# Altium schematic symbol library LT-CHARGE+.SchLib: 18 symbols
Pins are listed as number, name and electrical type; pins without a type are passive.

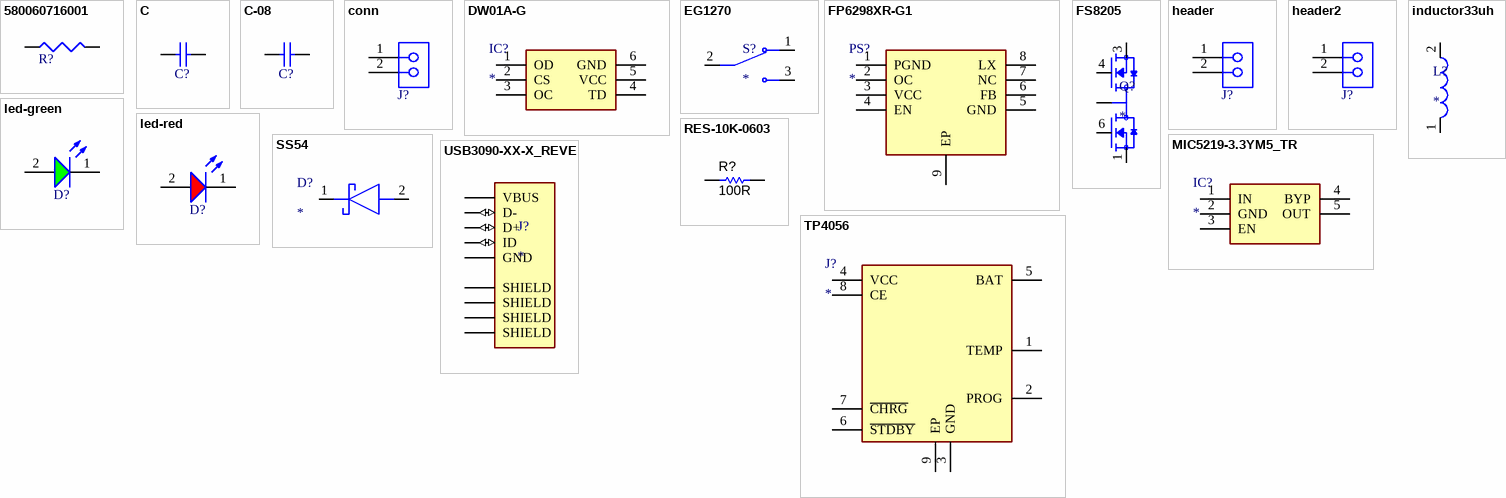
[diagram p0: symbols 580060716001 to USB3090-XX-X_REVE]

## 580060716001
designator R?, comment 5mΩ  (value not drawn)
WRIS-PSMB Metal Plate Resistor, SMT, size 0603, 0.33W, 5mΩ, +/-1%; Manufacturer Part Number: 580060716001; Manufacturer: Wurth Elektronik; Case/Size Code: 0603; Rated Current: 8.12A; Technical Reference: MB0603R005F103KAATP0000; Temperature Coefficient of Resistance: +/-100ppm/°C; Category: Metal Plate Resistors; Match Code: WRIS-PSMB; ComponentLink1Description: Website Link; ComponentLink1URL: https://www.we-online.com/redexpert/article/580060716001?ad; ComponentLink2Description: Datasheet Link; ComponentLink2URL: https://www.we-online.com/redexpert/spec/580060716001?ad; Mount: Surface Mount; Operating Temperature Max: 155°C; Operating Temperature Min: -55°C; Packaging: Tape and Reel; Length: 1.6mm; Width: 0.8mm; Height: 0.35mm; Rated Power: 0.33W; Resistance: 5mΩ; Resistance Tolerance: +/-1%
footprint WRIS-PSMB_0603_L1.6W0.8H0.3 (Metal Plate Resistor, SMT, body size 1.6x0.8mm)
pins: 1, 2

## C
designator C?, comment 100pF  (value not drawn)
WCAP-CSGP Multilayer Ceramic Chip Capacitor, General Purpose, size 0201, NP0 Class I, 100pF, 25VDC; Manufacturer Part Number: 885012004001; Manufacturer: Wurth Elektronik; Case/Size Code: 0201; Capacitance Tolerance: +/-5%; Insulation Resistance: 10GΩ; Q Factor: 1000; Rated Voltage (DC): 25V; Technical Reference: NP00201101J025DFCT10000; Category: Multilayer Ceramic Chip Capacitors; Match Code: WCAP-CSGP; ComponentLink1Description: Website Link; ComponentLink1URL: https://www.we-online.com/redexpert/article/885012004001?ad; ComponentLink2Description: Datasheet Link; ComponentLink2URL: https://www.we-online.com/redexpert/spec/885012004001?ad; Mount: Surface Mount; Operating Temperature Max: 125°C; Operating Temperature Min: -55°C; Packaging: Tape and Reel; Length: 0.6mm; Width: 0.3mm; Height: 0.3mm; Capacitance: 100pF; Ceramic Type: NP0 Class I
footprint WCAP-CSGP_0603_L1.6W0.8H0.8_Wave (Ceramic Capacitors, 0603, body 1.6x0.8mm)
pins: 1, 2

## C-08
designator C?, comment 10pF  (value not drawn)
WCAP-CSGP Multilayer Ceramic Chip Capacitor, General Purpose, size 0201, NP0 Class I, 10pF, 50VDC; Manufacturer Part Number: 885012004011; Manufacturer: Wurth Elektronik; Case/Size Code: 0201; Capacitance Tolerance: +/-5%; Insulation Resistance: 10GΩ; Q Factor: 600; Rated Voltage (DC): 50V; Technical Reference: NP00201100J050DFCT10000; Category: Multilayer Ceramic Chip Capacitors; Match Code: WCAP-CSGP; ComponentLink1Description: Website Link; ComponentLink1URL: https://www.we-online.com/redexpert/article/885012004011?ad; ComponentLink2Description: Datasheet Link; ComponentLink2URL: https://www.we-online.com/redexpert/spec/885012004011?ad; Mount: Surface Mount; Operating Temperature Max: 125°C; Operating Temperature Min: -55°C; Packaging: Tape and Reel; Length: 0.6mm; Width: 0.3mm; Height: 0.3mm; Capacitance: 10pF; Ceramic Type: NP0 Class I
footprint WCAP-CSGP_0805_L2W1.25H0.6_Wave (Ceramic Capacitors, body 2x1.25mm)
pins: 1, 2

## conn
designator J?, comment 691412220002M  (value not drawn)
WR-TBL Series 4122M 45° Entry, THT, pitch 7mm, 2p; Manufacturer: Wurth Elektronik; Modularity: No; Rated Current: 4A; Working Voltage: 300V; ComponentLink1Description: Website Link; ComponentLink1URL: https://www.we-online.com/redexpert/article/691412220002M?ad; ComponentLink2Description: Datasheet Link; ComponentLink2URL: https://www.we-online.com/redexpert/spec/691412220002M?ad; Manufacturer Part Number: 691412220002M; Category: Terminal Blocks; Match Code: WR-TBL; Mount: Through Hole; Operating Temperature Max: 120°C; Operating Temperature Min: -30°C; Packaging: Box; Application: Screwless; Number of Pins: 2; Number of Rows: 1; Orientation: 45°; Pitch: 7mm
footprint 691210910002 (2,54mm - modular - green - Horizontal wire entry - Cage clamp - 0,8mm2 wires - 02p)
pins: 1, 2

## DW01A-G
designator IC?
Integrated Circuit; Manufacturer_Name: Fortune Semiconductor Corporation; Manufacturer_Part_Number: DW01A-G; Datasheet Link: http://acoptex.com/uploads/DW01A.pdf; Height: 1.35mm
footprint SOT95P280X135-6N
pins: 1 OD, 2 CS, 3 OC, 4 TD, 5 VCC, 6 GND

## EG1270
designator S?
Slide Switch SPDT Through Hole, Right Angle; MF: E-Switch; MP: EG1270; Availability: In Stock; Check_prices: https://www.snapeda.com/parts/EG1270/E-Switch/view-part/?ref=eda; SnapEDA_Link: https://www.snapeda.com/parts/EG1270/E-Switch/view-part/?ref=snap; Purchase-URL: https://pricing.snapeda.com/search/part/EG1270/?ref=eda; Package: None; Value: *; Price: None
footprint SW_EG1270
pins: 1, 2, 3

## FP6298XR-G1
designator PS?
Power Supply; Manufacturer_Name: Feeling Technology; Manufacturer_Part_Number: FP6298XR-G1; Datasheet Link: https://datasheet.lcsc.com/szlcsc/1811141821_Feeling-Tech-FP6298XR-G1_C88319.pdf; Height: 1.752mm
footprint SOIC127P600X175-9N
pins: 1 PGND, 2 OC, 3 VCC, 4 EN, 5 GND, 6 FB, 7 NC, 8 LX, 9 EP

## FS8205
designator Q?
Dual N-Channel Enhancement Mode Power MOSFET; MP: FS8205; MF: Fortune Semiconductor; SnapEDA_Link: https://www.snapeda.com/parts/FS8205/Fortune+Semiconductor/view-part/?ref=snap; Package: Package; Check_prices: https://www.snapeda.com/parts/FS8205/Fortune+Semiconductor/view-part/?ref=eda; Price: None; Value: *; Availability: Not in stock
footprint FS8205
pins: 1 S1, 2 D12, 3 S2, 4 G2, 5 D12, 6 G1

## header
designator J?, comment 691412220002M  (value not drawn)
WR-TBL Series 4122M 45° Entry, THT, pitch 7mm, 2p; Manufacturer: Wurth Elektronik; Modularity: No; Rated Current: 4A; Working Voltage: 300V; ComponentLink1Description: Website Link; ComponentLink1URL: https://www.we-online.com/redexpert/article/691412220002M?ad; ComponentLink2Description: Datasheet Link; ComponentLink2URL: https://www.we-online.com/redexpert/spec/691412220002M?ad; Manufacturer Part Number: 691412220002M; Category: Terminal Blocks; Match Code: WR-TBL; Mount: Through Hole; Operating Temperature Max: 120°C; Operating Temperature Min: -30°C; Packaging: Box; Application: Screwless; Number of Pins: 2; Number of Rows: 1; Orientation: 45°; Pitch: 7mm
footprint MOLEX_530480210
pins: 1, 2

## header2
designator J?, comment 691412220002M  (value not drawn)
WR-TBL Series 4122M 45° Entry, THT, pitch 7mm, 2p; Manufacturer: Wurth Elektronik; Modularity: No; Rated Current: 4A; Working Voltage: 300V; ComponentLink1Description: Website Link; ComponentLink1URL: https://www.we-online.com/redexpert/article/691412220002M?ad; ComponentLink2Description: Datasheet Link; ComponentLink2URL: https://www.we-online.com/redexpert/spec/691412220002M?ad; Manufacturer Part Number: 691412220002M; Category: Terminal Blocks; Match Code: WR-TBL; Mount: Through Hole; Operating Temperature Max: 120°C; Operating Temperature Min: -30°C; Packaging: Box; Application: Screwless; Number of Pins: 2; Number of Rows: 1; Orientation: 45°; Pitch: 7mm
footprint 61300211121 (Pin Header, pitch 2.54 mm, THT, Vertical, single row, 2p)
pins: 1, 2

## inductor33uh
designator L?
33 ÂµH Shielded Drum Core, Wirewound Inductor 3 A 60mOhm Max Nonstandard; MF: Bourns; MP: SRR1260-330M; Value: *; Check_prices: https://www.snapeda.com/parts/SRR1260-330M/Bourns/view-part/?ref=eda; SnapEDA_Link: https://www.snapeda.com/parts/SRR1260-330M/Bourns/view-part/?ref=snap; Availability: Not in stock; Package: Nonstandard Bourns; Price: None
footprint WE-PD_6050R (SMT Shielded Power Inductor, 2-leads, body 5.9x6.2mm)
pins: 1, 2

## led-green
designator D?, comment Green, 3.1V, 120°  (value not drawn)
WL-SMSW Mono-color Side View Waterclear, size 3014, Green, 3.1V, 120°; Manufacturer Part Number: 155301GS73100; Manufacturer: Wurth Elektronik; Case/Size Code: 3014; Chip Technology: InGaN; Dominant Wavelength: 525nm; Luminous Intensity: 1500mcd; Peak Wavelength: 515nm; Category: Signal LEDs; Match Code: WL-SMSW; ComponentLink1Description: Website Link; ComponentLink1URL: https://www.we-online.com/redexpert/article/155301GS73100?ad; ComponentLink2Description: Datasheet Link; ComponentLink2URL: https://www.we-online.com/redexpert/spec/155301GS73100?ad; Mount: Surface Mount; Operating Temperature Max: 85°C; Operating Temperature Min: -40°C; Packaging: Tape and Reel; Length: 3mm; Width: 1.38mm; Height: 1.55mm; Emitting Color: Green; Forward Voltage: 3.1V; Viewing Angle: 120°
footprint WL-SMCD_0603 (SMD Mono-color Chip LED, body 1.6x0.8mm)
pins: 1 K, 2 A

## led-red
designator D?, comment Super Red, 2V, 140°  (value not drawn)
WL-SMCD Mono-color Chip LED Diffused, SMT, size 0603, Super Red, 2V, 140°; Manufacturer Part Number: 150060SS55040; Manufacturer: Wurth Elektronik; Case/Size Code: 0603; Chip Technology: AlInGaP; Dominant Wavelength: 630nm; Luminous Intensity: 70mcd; Peak Wavelength: 645nm; Category: Signal LEDs; Match Code: WL-SMCD; ComponentLink1Description: Website Link; ComponentLink1URL: https://www.we-online.com/redexpert/article/150060SS55040?ad; ComponentLink2Description: Datasheet Link; ComponentLink2URL: https://www.we-online.com/redexpert/spec/150060SS55040?ad; Mount: Surface Mount; Operating Temperature Max: 85°C; Operating Temperature Min: -40°C; Packaging: Tape and Reel; Length: 1.6mm; Width: 0.8mm; Height: 0.4mm; Emitting Color: Super Red; Forward Voltage: 2V; Viewing Angle: 140°
footprint WL-SMCD_0603
pins: 1 K, 2 A

## MIC5219-3.3YM5_TR
designator IC?
Integrated Circuit; Manufacturer_Name: Microchip; Manufacturer_Part_Number: MIC5219-3.3YM5 TR; Datasheet Link: https://ww1.microchip.com/downloads/en/DeviceDoc/MIC5219-500mA-Peak-Output-LDO-Regulator-DS20006021A.pdf; Height: 1.45mm; Arrow Part Number: MIC5219-3.3YM5 TR; Arrow Price/Stock: https://www.arrow.com/en/products/mic5219-3.3ym5-tr/microchip-technology
footprint SOT95P280X145-5N
pins: 1 IN, 2 GND, 3 EN, 4 BYP, 5 OUT

## RES-10K-0603
designator R?, comment ValueDisplayed: 100R  (hidden comment: ERA-3ARW103V)
RES, 10.0 k, 0.05%, 0.1 W, AEC-Q200 Grade 0, 0603; Manufacturer: Panasonic; Res_ohm: 10k; CompType: Resistor; Value: 10.0k; SizeY_mm: 0.8; SizeArea_mm2: 1.28; SizeAreaWB_mm2: 4.68; AEC Grade: 0; Power_W: 100mW; SizeX_mm: 1.6; Value2: 0.1W; Value_Code: 10k0; SizeZ_mm: 1; AEC Qualified: Y; AEC Category: Q200; TempCo: 10 ppm/C; ComponentLink1URL: https://industrial.panasonic.com/cdbs/www-data/pdf/RDM0000/AOA0000C307.pdf; Value1: 0.05%; RoHS: Y; MountType: SMT; PartNumber: ERA-3ARW103V; PackageReference: 0603; ComponentLink1Description: Datasheet link; Tolerance_%: 0.05%; Technology: Thin Film
footprint WRIS-PSMB_0603_L1.6W0.8H0.3 (Metal Plate Resistor, SMT, body size 1.6x0.8mm)
pins: 1, 2

## SS54
designator D?
Schottky Diode; Manufacturer_Name: DIYI Elec Tech; Manufacturer_Part_Number: SS54; Datasheet Link: https://datasheet.lcsc.com/szlcsc/DIYI-Elec-Tech-SS54_C84165.pdf; Height: 2.62mm
footprint DIOM5026X262N
pins: 1 K, 2 A

## TP4056
designator J?
Connector; Manufacturer_Name: NanJing Top Power; Manufacturer_Part_Number: TP4056; Datasheet Link: https://dlnmh9ip6v2uc.cloudfront.net/datasheets/Prototyping/TP4056.pdf; Height: 1.75mm
footprint SOIC127P600X175-9N
pins: 1 TEMP, 2 PROG, 3 GND, 4 VCC, 5 BAT, 6 ~{STDBY}, 7 ~{CHRG}, 8 CE, 9 EP

## USB3090-XX-X_REVE
designator J?
Micro USB Receptacle, Type AB, SMT, R/A, Bottom Mount, w/out Peg, w/outer shell stakes; MP: USB3090-XX-X_REVE; Package: None; Price: None; Value: *; Availability: Unavailable
footprint GCT_USB3080-XX-01-A_REVE
pins: 1 VBUS (power), 2 D- (io), 3 D+ (io), 4 ID (io), 5 GND (power), 6 SHIELD (power), 7 SHIELD (power), 8 SHIELD (power), 9 SHIELD (power)